# Altium footprint library RJ.PcbLib: 1 footprints
Each footprint in its own frame and in the unit in brackets; x right, y up, seen from the top. Pads: shape width x height; smd on the part's side, far side on the other; paste and mask are expansions set on the pad; w line width, h text height; cw(c..) or ccw(c..) is an arc to the next point about the centre after c.
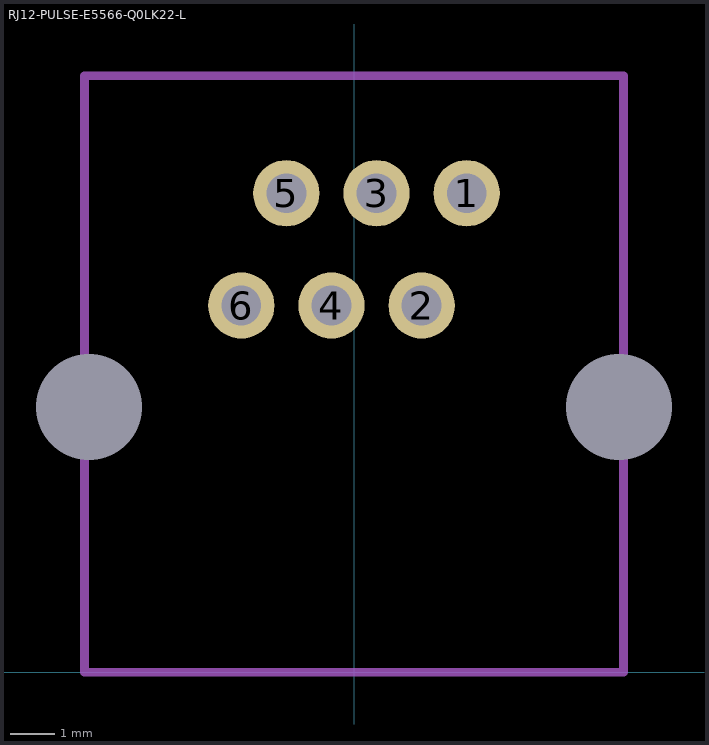
[diagram p0: the footprint, top view; thin cyan lines are the x and y axes]

## RJ12-PULSE-E5566-Q0LK22-L [mm]
pads (8):
  round 1.5 hole 0.9: 1(2.55,10.84) 2(1.53,8.3) 3(0.51,10.84) 4(-0.51,8.3) 5(-1.53,10.84) 6(-2.55,8.3)
  round 0 hole 2.4 unplated: M(-6,6) M(6,6)
Top Assembly:
  lines w0.2: -6.1,0 6.1,0 6.1,13.5 -6.1,13.5 -6.1,0
3D body: height 14.5, standoff 13.6, extent -6.1,0 6.1,13.5
3D body: height 13.6, standoff 12, extent -6.1,0 6.1,13.5
3D body: height 12, standoff 10.3, extent -6.1,0 6.1,13.5
3D body: height 0, standoff -3.4, extent -2.85,8.1 -2.25,8.5
3D body: height 0, standoff -3.4, extent -1.83,10.64 -1.23,11.04
3D body: height 0, standoff -3.4, extent -0.81,8.1 -0.21,8.5
3D body: height 0, standoff -3.4, extent 0.21,10.64 0.81,11.04
3D body: height 0, standoff -3.4, extent 1.23,8.1 1.83,8.5
3D body: height 0, standoff -3.4, extent 2.25,10.64 2.85,11.04
3D body: height 3, standoff -3.1, extent -7.1,4.9 -4.9,7.1
3D body: height 3, standoff -3.1, extent 4.9,4.9 7.1,7.1
3D body: height 3.2, standoff 0, extent -6.1,0 6.1,13.5
3D body: height 9, standoff 3.2, extent -6.1,0 6.1,13.5
3D body: height 10.3, standoff 9, extent -6.1,0 6.1,13.5